# Altium footprint library DF11-10DP-2DS.PcbLib: 1 footprints
Each footprint in its own frame and in the unit in brackets; x right, y up, seen from the top. Pads: shape width x height; smd on the part's side, far side on the other; paste and mask are expansions set on the pad; w line width, h text height; cw(c..) or ccw(c..) is an arc to the next point about the centre after c.
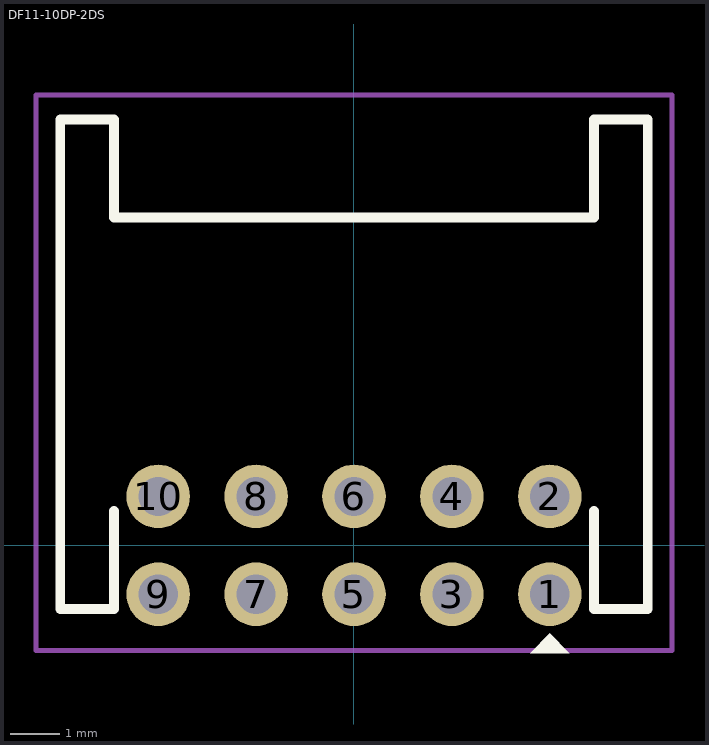
[diagram p0: the footprint, top view; thin cyan lines are the x and y axes]

## DF11-10DP-2DS [mm]
pads (10):
  round 1.3 hole 0.8: 1(4,-1) 2(4,1) 3(2,-1) 4(2,1) 5(0,-1) 6(0,1) 7(-2,-1) 8(-2,1) 9(-4,-1) 10(-4,1)
Top Overlay:
  region: 4.4,-2.2 3.6,-2.2 4,-1.8
  lines w0.2: -4.9,0.7 -4.9,-1.3 -6,-1.3 -6,8.7 -4.9,8.7 -4.9,6.7 4.9,6.7 4.9,8.7 6,8.7 6,-1.3 4.9,-1.3 4.9,0.7
Top Courtyard:
  lines w0.1: -6.5,-2.15 -6.5,9.2 6.5,9.2 6.5,-2.15 -4,-2.15 -6.5,-2.15
3D body "DF11-10DP-2DS.stp": height 5.16, standoff -2.84, extent -6,-1.275 6,8.725